# Altium footprint library xNEO.PcbLib: 5 footprints
Each footprint in its own frame and in the unit in brackets; x right, y up, seen from the top. Pads: shape width x height; smd on the part's side, far side on the other; paste and mask are expansions set on the pad; w line width, h text height; cw(c..) or ccw(c..) is an arc to the next point about the centre after c.
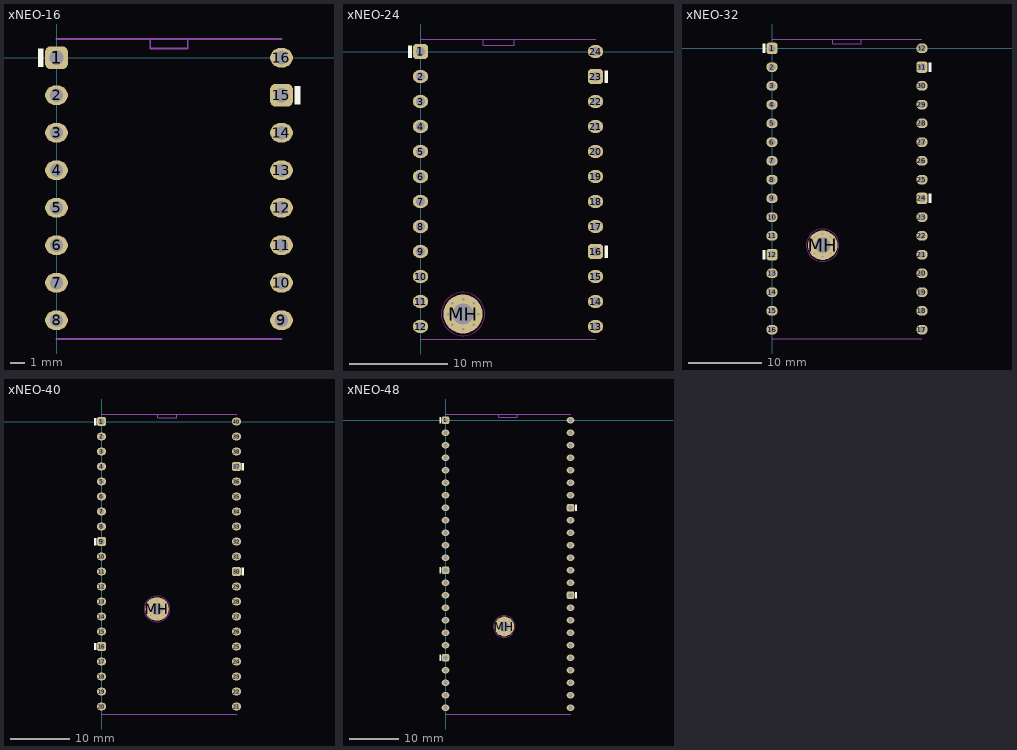
[diagram p0: the footprints below, top view; thin cyan lines are the x and y axes]

## xNEO-16 [mm] "2.54mm"
pads (16):
  rrect50% 1.55x1.55 hole 0.95 mask+0: 1(0,0) 15(15.24,-2.54)
  oval 1.55x1.3 hole 0.89 mask+0: 2(0,-2.54) 3(0,-5.08) 4(0,-7.62) 5(0,-10.16) 6(0,-12.7) 7(0,-15.24) 8(0,-17.78) 9(15.24,-17.78) 10(15.24,-15.24) 11(15.24,-12.7) 12(15.24,-10.16) 13(15.24,-7.62) 14(15.24,-5.08) 16(15.24,0)
Top Overlay:
  rectangle: -1.27,-0.635 -0.889,0.635
  region: 16.51,-1.905 16.129,-1.905 16.129,-3.175 16.51,-3.175
Mechanical 15:
  lines w0.127: 0,-19.05 15.24,-19.05 ; 0,1.27 15.24,1.27 ; 6.35,1.27 6.35,0.635 8.89,0.635 8.89,1.27
  text "xNEO-16" at 4.648,-1.168 h1.07

## xNEO-24 [mm] "2.54mm"
pads (25):
  rrect50% 1.55x1.55 hole 0.95 mask+0: 1(0,0) 16(17.78,-20.32) 23(17.78,-2.54)
  oval 1.55x1.3 hole 0.89 mask+0: 2(0,-2.54) 3(0,-5.08) 4(0,-7.62) 5(0,-10.16) 6(0,-12.7) 7(0,-15.24) 8(0,-17.78) 9(0,-20.32) 10(0,-22.86) 11(0,-25.4) 12(0,-27.94) 13(17.78,-27.94) 14(17.78,-25.4) 15(17.78,-22.86) 17(17.78,-17.78) 18(17.78,-15.24) 19(17.78,-12.7) 20(17.78,-10.16) 21(17.78,-7.62) 22(17.78,-5.08) 24(17.78,0)
  round 4 hole 2.1: MH(4.318,-26.67)
via 5.842,-26.67 diameter 0.457 hole 0.254
via 5.396,-27.748 diameter 0.457 hole 0.254
via 4.318,-28.194 diameter 0.457 hole 0.254
via 3.24,-27.748 diameter 0.457 hole 0.254
via 2.794,-26.67 diameter 0.457 hole 0.254
via 3.24,-25.592 diameter 0.457 hole 0.254
via 4.318,-25.146 diameter 0.457 hole 0.254
via 5.396,-25.592 diameter 0.457 hole 0.254
Top Overlay:
  region: 19.05,-1.905 18.669,-1.905 18.669,-3.175 19.05,-3.175
  region: 19.05,-19.685 18.669,-19.685 18.669,-20.955 19.05,-20.955
  rectangle: -1.27,-0.635 -0.889,0.635
Keep-Out Layer:
  circle w0.1: c4.318,-26.67 r2.2
Mechanical 15:
  lines w0.127: 0,-29.21 17.78,-29.21 ; 0,1.27 17.78,1.27 ; 6.35,1.27 6.35,0.635 9.525,0.635 9.525,1.27
  text "xNEO-24" at 5.283,-1.168 h1.07

## xNEO-32 [mm] "2.54mm"
pads (33):
  rrect50% 1.55x1.55 hole 0.95 mask+0: 1(0,0) 12(0,-27.94) 24(20.32,-20.32) 31(20.32,-2.54)
  oval 1.55x1.3 hole 0.89 mask+0: 2(0,-2.54) 3(0,-5.08) 4(0,-7.62) 5(0,-10.16) 6(0,-12.7) 7(0,-15.24) 8(0,-17.78) 9(0,-20.32) 10(0,-22.86) 11(0,-25.4) 13(0,-30.48) 14(0,-33.02) 15(0,-35.56) 16(0,-38.1) 17(20.32,-38.1) 18(20.32,-35.56) 19(20.32,-33.02) 20(20.32,-30.48) 21(20.32,-27.94) 22(20.32,-25.4) 23(20.32,-22.86) 25(20.32,-17.78) 26(20.32,-15.24) 27(20.32,-12.7) 28(20.32,-10.16) 29(20.32,-7.62) 30(20.32,-5.08) 32(20.32,0)
  round 4 hole 2.1: MH(6.858,-26.67)
via 8.382,-26.67 diameter 0.457 hole 0.254
via 7.936,-27.748 diameter 0.457 hole 0.254
via 6.858,-28.194 diameter 0.457 hole 0.254
via 5.78,-27.748 diameter 0.457 hole 0.254
via 5.334,-26.67 diameter 0.457 hole 0.254
via 5.78,-25.592 diameter 0.457 hole 0.254
via 6.858,-25.146 diameter 0.457 hole 0.254
via 7.936,-25.592 diameter 0.457 hole 0.254
Top Overlay:
  region: 21.59,-19.685 21.209,-19.685 21.209,-20.955 21.59,-20.955
  region: 21.59,-1.905 21.209,-1.905 21.209,-3.175 21.59,-3.175
  rectangle: -1.27,-28.575 -0.889,-27.305
  rectangle: -1.27,-0.635 -0.889,0.635
Keep-Out Layer:
  circle w0.1: c6.858,-26.67 r2.2
Mechanical 15:
  lines w0.127: 0,-39.37 20.32,-39.37 ; 0,1.27 20.32,1.27 ; 8.255,1.27 8.255,0.635 11.43,0.635 12.065,0.635 12.065,1.27
  text "xNEO-32" at 6.807,-1.168 h1.07

## xNEO-40 [mm] "2.54mm"
pads (41):
  rrect50% 1.55x1.55 hole 0.95 mask+0: 1(0,0) 9(0,-20.32) 16(0,-38.1) 30(22.86,-25.4) 37(22.86,-7.62)
  oval 1.55x1.3 hole 0.89 mask+0: 2(0,-2.54) 3(0,-5.08) 4(0,-7.62) 5(0,-10.16) 6(0,-12.7) 7(0,-15.24) 8(0,-17.78) 10(0,-22.86) 11(0,-25.4) 12(0,-27.94) 13(0,-30.48) 14(0,-33.02) 15(0,-35.56) 17(0,-40.64) 18(0,-43.18) 19(0,-45.72) 20(0,-48.26) 21(22.86,-48.26) 22(22.86,-45.72) 23(22.86,-43.18) 24(22.86,-40.64) 25(22.86,-38.1) 26(22.86,-35.56) 27(22.86,-33.02) 28(22.86,-30.48) 29(22.86,-27.94) 31(22.86,-22.86) 32(22.86,-20.32) 33(22.86,-17.78) 34(22.86,-15.24) 35(22.86,-12.7) 36(22.86,-10.16) 38(22.86,-5.08) 39(22.86,-2.54) 40(22.86,0)
  round 4 hole 2.1: MH(9.398,-31.75)
via 10.922,-31.75 diameter 0.457 hole 0.254
via 10.476,-32.828 diameter 0.457 hole 0.254
via 9.398,-33.274 diameter 0.457 hole 0.254
via 8.32,-32.828 diameter 0.457 hole 0.254
via 7.874,-31.75 diameter 0.457 hole 0.254
via 8.32,-30.672 diameter 0.457 hole 0.254
via 9.398,-30.226 diameter 0.457 hole 0.254
via 10.476,-30.672 diameter 0.457 hole 0.254
Top Overlay:
  rectangle: -1.27,-38.735 -0.889,-37.465
  rectangle: -1.27,-20.955 -0.889,-19.685
  rectangle: -1.27,-0.635 -0.889,0.635
  region: 24.13,-24.765 23.749,-24.765 23.749,-26.035 24.13,-26.035
  region: 24.13,-6.985 23.749,-6.985 23.749,-8.255 24.13,-8.255
Keep-Out Layer:
  circle w0.1: c9.398,-31.75 r2.2
Mechanical 15:
  lines w0.127: 0,-49.53 22.86,-49.53 ; 0,1.27 22.86,1.27 ; 9.525,1.27 9.525,0.635 12.7,0.635 12.7,1.27
  text "xNEO-40" at 7.823,-1.168 h1.07

## xNEO-48 [mm] "2.54mm"
pads (49):
  rrect50% 1.55x1.55 hole 0.95 mask+0: 1(0,0) 13(0,-30.48) 20(0,-48.26) 34(25.4,-35.56) 41(25.4,-17.78)
  oval 1.55x1.3 hole 0.89 mask+0: 2(0,-2.54) 3(0,-5.08) 4(0,-7.62) 5(0,-10.16) 6(0,-12.7) 7(0,-15.24) 8(0,-17.78) 9(0,-20.32) 10(0,-22.86) 11(0,-25.4) 12(0,-27.94) 14(0,-33.02) 15(0,-35.56) 16(0,-38.1) 17(0,-40.64) 18(0,-43.18) 19(0,-45.72) 21(0,-50.8) 22(0,-53.34) 23(0,-55.88) 24(0,-58.42) 25(25.4,-58.42) 26(25.4,-55.88) 27(25.4,-53.34) 28(25.4,-50.8) 29(25.4,-48.26) 30(25.4,-45.72) 31(25.4,-43.18) 32(25.4,-40.64) 33(25.4,-38.1) 35(25.4,-33.02) 36(25.4,-30.48) 37(25.4,-27.94) 38(25.4,-25.4) 39(25.4,-22.86) 40(25.4,-20.32) 42(25.4,-15.24) 43(25.4,-12.7) 44(25.4,-10.16) 45(25.4,-7.62) 46(25.4,-5.08) 47(25.4,-2.54) 48(25.4,0)
  round 4 hole 2.1: MH(11.938,-41.91)
via 13.016,-40.832 diameter 0.457 hole 0.254
via 11.938,-40.386 diameter 0.457 hole 0.254
via 10.86,-40.832 diameter 0.457 hole 0.254
via 10.414,-41.91 diameter 0.457 hole 0.254
via 10.86,-42.988 diameter 0.457 hole 0.254
via 11.938,-43.434 diameter 0.457 hole 0.254
via 13.016,-42.988 diameter 0.457 hole 0.254
via 13.462,-41.91 diameter 0.457 hole 0.254
Top Overlay:
  region: 26.67,-17.145 26.289,-17.145 26.289,-18.415 26.67,-18.415
  region: 26.67,-34.925 26.289,-34.925 26.289,-36.195 26.67,-36.195
  rectangle: -1.27,-48.895 -0.889,-47.625
  rectangle: -1.27,-31.115 -0.889,-29.845
  rectangle: -1.27,-0.635 -0.889,0.635
Keep-Out Layer:
  circle w0.1: c11.938,-41.91 r2.2
Mechanical 15:
  lines w0.127: 0,-59.69 25.4,-59.69 ; 0,1.27 25.4,1.27 ; 10.795,1.27 10.795,0.635 13.97,0.635 14.605,0.635 14.605,1.27
  text "xNEO-48" at 9.093,-1.168 h1.07